# EAGLE library part CH340E (library user_ic)
USBシリアル変換IC CH340E 電源電圧：3.3V、5V usb伝送規格：usb2.0 クロック：12MHz 秋月電子通商通販コード[I-13543] 秋月のusbシリアル変換モジュールのtypeCのやつのICがこいつで回路図もでてた。中国語のデータシートか意味不明なので回路図でノリ
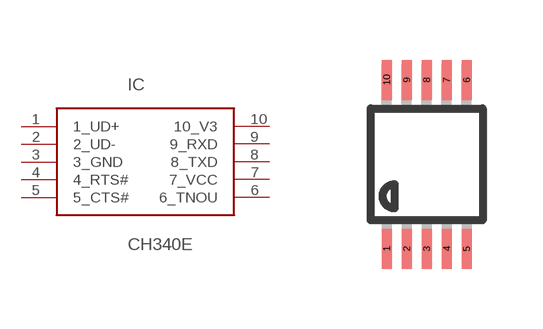
[diagram p25: symbol with the pads of MSOP10; footprint MSOP10]

Designator prefix IC

## CH340E  [MSOP10]
1  1_UD+
2  2_UD-
3  3_GND
4  4_RTS#
5  5_CTS#
6  6_TNOU
7  7_VCC
8  8_TXD
9  9_RXD
10  10_V3

## Footprint MSOP10 (pad centres in mm)
10-Lead Mini Small Outline Package [MSOP] (RM-10)
smd 0.25 x 1: 1 -1,-2.113; 2 -0.5,-2.113; 3 0,-2.113; 4 0.5,-2.113; 5 1,-2.113; 6 1,2.113; 7 0.5,2.113; 8 0,2.113; 9 -0.5,2.113; 10 -1,2.113